# EAGLE library part S2G7_JUMP (library #PaJa_konektory)
Radove konektory - koliky - dvojite - 2x7
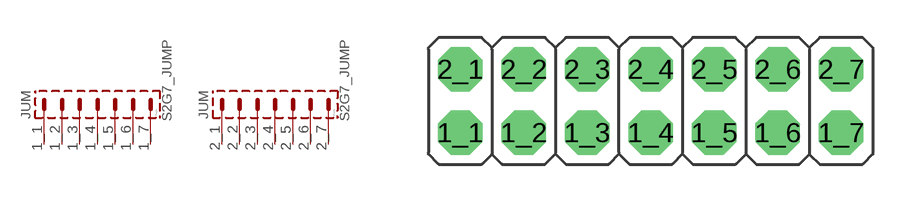
[diagram p30: symbol with the pads of S2G7_JUM; footprint S2G7_JUM]

Designator prefix JUM; gates 1=S1G7 2=S1G7

## S2G7_JUMP  [S2G7_JUM]
1_1  1:1  pas
1_2  1:2  pas
1_3  1:3  pas
1_4  1:4  pas
1_5  1:5  pas
1_6  1:6  pas
1_7  1:7  pas
2_1  2:1  pas
2_2  2:2  pas
2_3  2:3  pas
2_4  2:4  pas
2_5  2:5  pas
2_6  2:6  pas
2_7  2:7  pas

## Footprint S2G7_JUM (pad centres in mm)
drill 0.813 pad 1.778 octagon: 1_1 -7.62,-1.27; 1_2 -5.08,-1.27; 1_3 -2.54,-1.27; 1_4 0,-1.27; 1_5 2.54,-1.27; 1_6 5.08,-1.27; 1_7 7.62,-1.27; 2_1 -7.62,1.27; 2_2 -5.08,1.27; 2_3 -2.54,1.27; 2_4 0,1.27; 2_5 2.54,1.27; 2_6 5.08,1.27; 2_7 7.62,1.27